# Altium footprint library PCB - LEADED - SOP - TI VSSOP-28 DGS0028A.PCBLIB: 1 footprints
Each footprint in its own frame and in the unit in brackets; x right, y up, seen from the top. Pads: shape width x height; smd on the part's side, far side on the other; paste and mask are expansions set on the pad; w line width, h text height; cw(c..) or ccw(c..) is an arc to the next point about the centre after c.
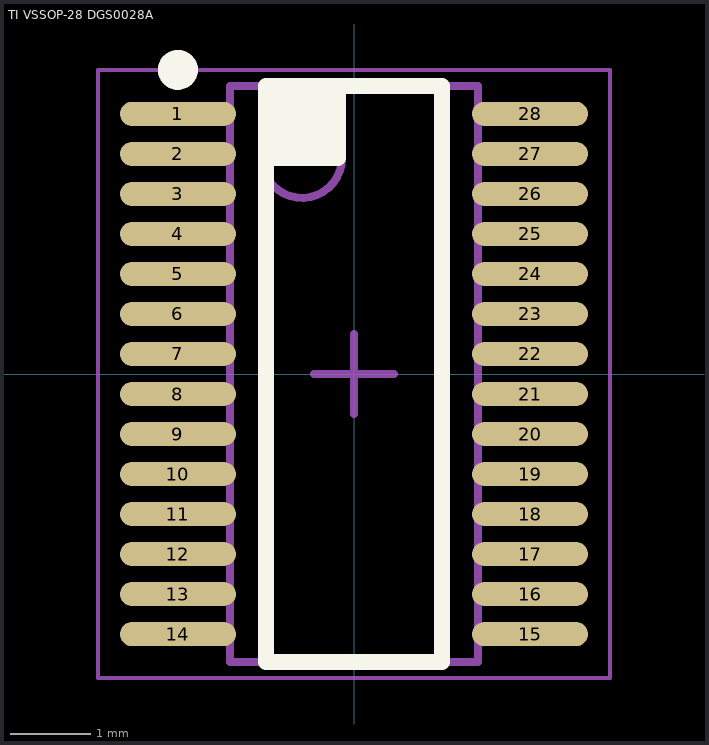
[diagram p0: the footprint, top view; thin cyan lines are the x and y axes]

## TI VSSOP-28 DGS0028A [mm] "VSSOP, 28-Leads, Body 7.10x3.00mm, Pitch 0.50mm"
height 1.1
pads (28):
  oval 1.45x0.3 smd: 1(-2.2,3.25) 2(-2.2,2.75) 3(-2.2,2.25) 4(-2.2,1.75) 5(-2.2,1.25) 6(-2.2,0.75) 7(-2.2,0.25) 8(-2.2,-0.25) 9(-2.2,-0.75) 10(-2.2,-1.25) 11(-2.2,-1.75) 12(-2.2,-2.25) 13(-2.2,-2.75) 14(-2.2,-3.25) 15(2.2,-3.25) 16(2.2,-2.75) 17(2.2,-2.25) 18(2.2,-1.75) 19(2.2,-1.25) 20(2.2,-0.75) 21(2.2,-0.25) 22(2.2,0.25) 23(2.2,0.75) 24(2.2,1.25) 25(2.2,1.75) 26(2.2,2.25) 27(2.2,2.75) 28(2.2,3.25)
Top Overlay:
  circle w0.25: c-2.2,3.8 r0.125
  rectangle: -1.1,2.7 -0.2,3.6
  lines w0.2: -1,2.7 -0.2,2.7 -0.2,3.6 ; -1.1,-3.6 -1.1,3.6 1.1,3.6 1.1,-3.6 -1.1,-3.6
Mechanical 13:
  circle w0.1: c-0.65,2.7 r0.5
  lines w0.1: -1.55,-3.6 1.55,-3.6 1.55,3.6 -1.55,3.6 -1.55,-3.6
Mechanical 15:
  lines w0.05: -3.2,-3.8 3.2,-3.8 3.2,3.8 -3.2,3.8 -3.2,-3.8
Mechanical 2 (Mech9):
  lines w0.1: -0.5,0 0.5,0 ; 0,-0.5 0,0.5
3D body "TI VSSOP-28 DGS0028A.step": height 1.1, standoff 0, extent -2.45,-3.6 2.45,3.6